# Altium footprint library BY_PcbLib1.PcbLib: 21 footprints (part 2 of 2)
Each footprint in its own frame and in the unit in brackets; x right, y up, seen from the top. Pads: shape width x height; smd on the part's side, far side on the other; paste and mask are expansions set on the pad; w line width, h text height; cw(c..) or ccw(c..) is an arc to the next point about the centre after c.
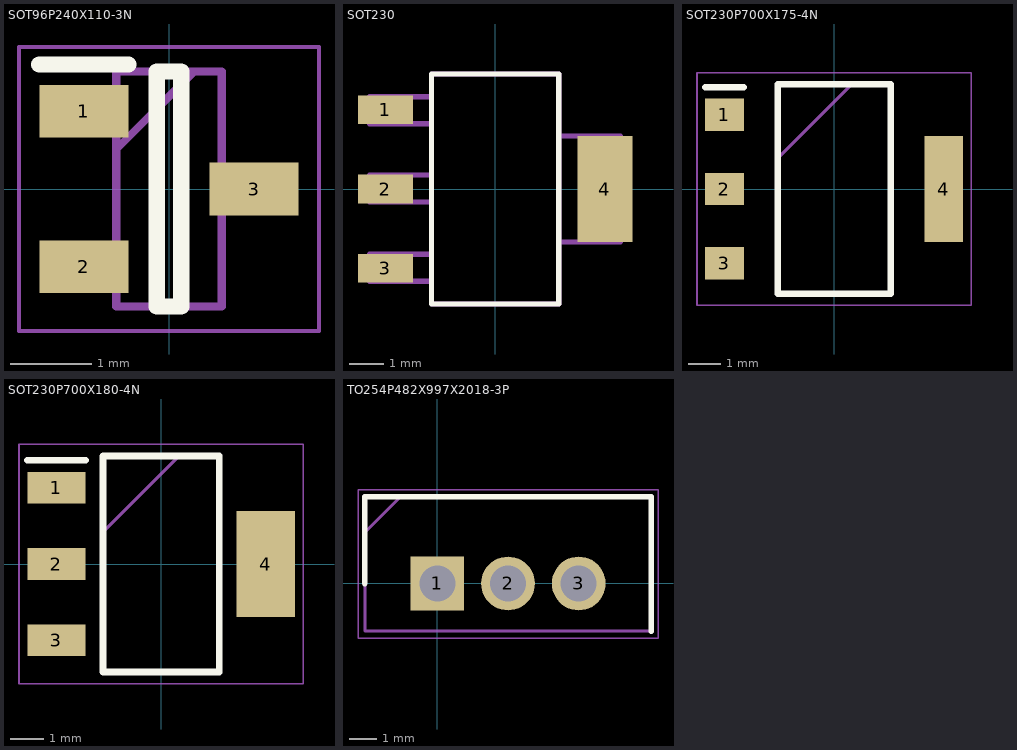
[diagram p1: the footprints below, top view; thin cyan lines are the x and y axes]

## SOT96P240X110-3N [mm]
pads (3):
  rect 1.1x0.65 smd: 1(-1.05,0.96) 2(-1.05,-0.96) 3(1.05,0)
Top Overlay:
  lines w0.2: -1.6,1.535 -0.5,1.535 ; -0.15,-1.45 -0.15,1.45 0.15,1.45 0.15,-1.45 -0.15,-1.45
Mechanical 13:
  lines w0.1: -0.65,0.49 0.31,1.45 ; -0.65,-1.45 -0.65,1.45 0.65,1.45 0.65,-1.45 -0.65,-1.45
Mechanical 15:
  lines w0.05: -1.85,-1.75 -1.85,1.75 1.85,1.75 1.85,-1.75 -1.85,-1.75
3D body "AZ23C5V6-7.stp": height 1.1, standoff 0, extent -1.2,-1.45 1.2,1.45

## SOT230 [mil]
pads (4):
  rect 63x33 smd: 1(-126,91) 2(-126,0) 3(-126,-91)
  rect 63x122 smd: 4(126,0)
Top Overlay:
  lines w6: -73,-132 73,-132 73,132 -73,132 -73,-132
Mechanical 13:
  lines w6: -144,-106 -144,-75 -73,-75 -73,-106 -144,-106 ; -144,-15 -144,16 -73,16 -73,-15 -144,-15 ; -144,75 -144,106 -73,106 -73,75 -144,75 ; -73,-132 73,-132 73,132 -73,132 -73,-132 ; 73,-61 73,61 144,61 144,-61 73,-61
3D body "LM1117-3.3--3DModel-STEP-56544.STEP": height 70.87, standoff 0, extent -137.75,-127.95 137.75,127.95

## SOT230P700X175-4N [mm]
pads (4):
  rect 1.2x1 smd: 1(-3.4,2.3) 2(-3.4,0) 3(-3.4,-2.3)
  rect 1.2x3.3 smd: 4(3.4,0)
Top Overlay:
  lines w0.2: -4,3.15 -2.8,3.15 ; -1.75,-3.25 1.75,-3.25 1.75,3.25 -1.75,3.25 -1.75,-3.25
Mechanical 13:
  lines w0.1: -1.75,0.95 0.55,3.25 ; -1.75,-3.25 1.75,-3.25 1.75,3.25 -1.75,3.25 -1.75,-3.25
Mechanical 15:
  lines w0.05: -4.25,-3.6 4.25,-3.6 4.25,3.6 -4.25,3.6 -4.25,-3.6
3D body "MC33275ST-3.3T3G.stp": height 1.75, standoff 0, extent -3.5,-3.25 3.5,3.25

## SOT230P700X180-4N [mm]
pads (4):
  rect 1.75x0.95 smd: 1(-3.15,2.3) 2(-3.15,0) 3(-3.15,-2.3)
  rect 1.75x3.2 smd: 4(3.15,0)
Top Overlay:
  lines w0.2: -4.025,3.125 -2.275,3.125 ; -1.75,-3.25 1.75,-3.25 1.75,3.25 -1.75,3.25 -1.75,-3.25
Mechanical 13:
  lines w0.1: -1.75,0.95 0.55,3.25 ; -1.75,-3.25 1.75,-3.25 1.75,3.25 -1.75,3.25 -1.75,-3.25
Mechanical 15:
  lines w0.05: -4.275,-3.6 4.275,-3.6 4.275,3.6 -4.275,3.6 -4.275,-3.6
3D body "LM317AEMP.stp": height 1.68, standoff 0, extent -3.5,-3.25 3.5,3.25

## TO254P482X997X2018-3P [mm]
pads (3):
  rect 1.935x1.935 hole 1.29: 1(0,0)
  round 1.935 hole 1.29: 2(2.54,0) 3(5.08,0)
Top Overlay:
  lines w0.2: -2.6,0 -2.6,3.11 7.68,3.11 7.68,-1.71
Mechanical 13:
  lines w0.1: -2.6,1.84 -1.33,3.11 ; -2.6,-1.71 -2.6,3.11 7.68,3.11 7.68,-1.71 -2.6,-1.71
Mechanical 15:
  lines w0.05: -2.85,-1.96 -2.85,3.36 7.93,3.36 7.93,-1.96 -2.85,-1.96
3D body "LM317MTG.stp": height 18.48, standoff -17.79, extent -2.445,-1.71 7.525,3.11